# EAGLE library part LIS2DH12 (library LIS2DH12)
MEMS digital output motion sensor: ultra low-power high performance 3-axes femto accelerometer
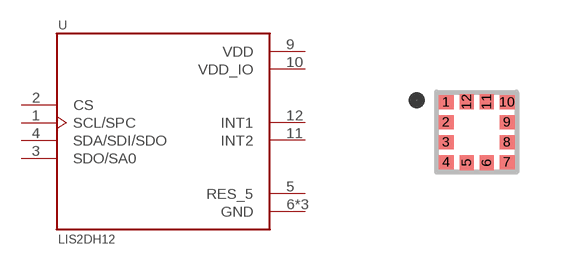
[diagram p0: symbol with the pads of SENSOR_LIS2DH12; footprint SENSOR_LIS2DH12]

Designator prefix U

## LIS2DH12 (Availability: Unavailable; Description: MEMS digital output motion sensor: ultra low-power high performance 3-axes femto accelerometer; MF: STMicroelectronics; MP: LIS2DH12; Package: LGA-12 STMicroelectronics; Price: None)  [SENSOR_LIS2DH12]
1  SCL/SPC  in
2  CS  in
3  SDO/SA0  out
4  SDA/SDI/SDO
5  RES_5  pwr
6  GND  pwr
7  GND  pwr
8  GND  pwr
9  VDD  pwr
10  VDD_IO  pwr
11  INT2  out
12  INT1  out

## Footprint SENSOR_LIS2DH12 (pad centres in mm)
smd 0.375 x 0.35: 1 -0.762,0.75; 2 -0.762,0.25; 3 -0.762,-0.25; 4 -0.762,-0.75; 7 0.762,-0.75; 8 0.762,-0.25; 9 0.762,0.25; 10 0.762,0.75
smd 0.35 x 0.375: 5 -0.25,-0.762; 6 0.25,-0.762; 11 0.25,0.762; 12 -0.25,0.762